# EAGLE library part S2L3.50/10/90G (library strasys_standard)
OMNIMATE S2L3.50/10/90G Fa. Weidmüller
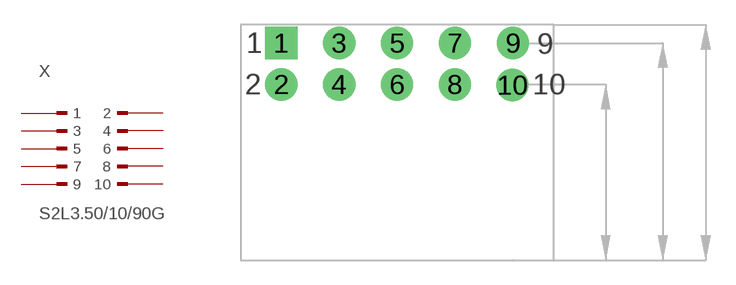
[diagram p8: symbol with the pads of S2L-90G-10; footprint S2L-90G-10]

Designator prefix X

## S2L3.50/10/90G (MPN: S2L3.50/10/90G; SUPPLIER: Weidmüller)  [S2L-90G-10]
1  1  pas
2  2  pas
3  3  pas
4  4  pas
5  5  pas
6  6  pas
7  7  pas
8  8  pas
9  9  pas
10  10  pas

## Footprint S2L-90G-10 (pad centres in mm)
drill 1.3 square: 1 0,0
drill 1.3: 2 0,-2.5; 3 3.5,0; 4 3.5,-2.5; 5 7,0; 6 7,-2.5; 7 10.5,0; 8 10.5,-2.5; 9 14,0; 10 13.97,-2.54